# Altium integrated library WE-CMB_NiZn_rev15a.intlib: 9 symbols
Pins are listed as number, name and electrical type; pins without a type are passive.

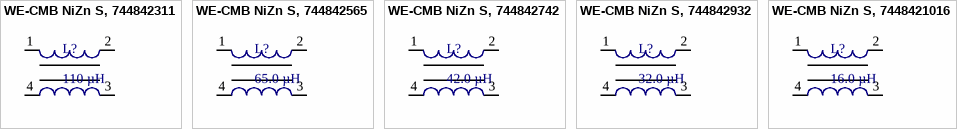
[diagram p0: symbols WE-CMB NiZn S, 744842311 to WE-CMB NiZn S, 7448421016]

## WE-CMB NiZn S, 744842311
designator L?, comment 110 µH
THT Common Mode Power Line Choke WE-CMB NiZn, L=110 µH; partNo: 744842311; Manufacturer: Würth Elektronik eiSos GmbH; Inductance: 110 µH; ComponentLink1Description: Manufacturer; ComponentLink1URL: http://www.we-online.de; Created by: Christin Zierenner; Created Date: March 2010; ComponentLink2Description: Datasheet; ComponentLink2URL: http://www.we-online.de/katalog/media/pdf/744842311.pdf
footprint WE-CMB HC S (THT Inductor, 4-Leads, Body 18,5x14,5mm)
pins: 1, 2, 3, 4

## WE-CMB NiZn S, 744842565
designator L?, comment 65.0 µH
THT Common Mode Power Line Choke WE-CMB NiZn, L=65.0 µH; partNo: 744842565; Manufacturer: Würth Elektronik eiSos GmbH; Inductance: 65.0 µH; ComponentLink1Description: Manufacturer; ComponentLink1URL: http://www.we-online.de; Created by: Christin Zierenner; Created Date: March 2010; ComponentLink2Description: Datasheet; ComponentLink2URL: http://www.we-online.de/katalog/media/pdf/744842565.pdf
footprint WE-CMB HC S (THT Inductor, 4-Leads, Body 18,5x14,5mm)
pins: 1, 2, 3, 4

## WE-CMB NiZn S, 744842742
designator L?, comment 42.0 µH
THT Common Mode Power Line Choke WE-CMB NiZn, L=42.0 µH; partNo: 744842742; Manufacturer: Würth Elektronik eiSos GmbH; Inductance: 42.0 µH; ComponentLink1Description: Manufacturer; ComponentLink1URL: http://www.we-online.de; Created by: Christin Zierenner; Created Date: March 2010; ComponentLink2Description: Datasheet; ComponentLink2URL: http://www.we-online.de/katalog/media/pdf/744842742.pdf
footprint WE-CMB HC S (THT Inductor, 4-Leads, Body 18,5x14,5mm)
pins: 1, 2, 3, 4

## WE-CMB NiZn S, 744842932
designator L?, comment 32.0 µH
THT Common Mode Power Line Choke WE-CMB NiZn, L=32.0 µH; partNo: 744842932; Manufacturer: Würth Elektronik eiSos GmbH; Inductance: 32.0 µH; ComponentLink1Description: Manufacturer; ComponentLink1URL: http://www.we-online.de; Created by: Christin Zierenner; Created Date: March 2010; ComponentLink2Description: Datasheet; ComponentLink2URL: http://www.we-online.de/katalog/media/pdf/744842932.pdf
footprint WE-CMB HC S (THT Inductor, 4-Leads, Body 18,5x14,5mm)
pins: 1, 2, 3, 4

## WE-CMB NiZn S, 7448421016
designator L?, comment 16.0 µH
THT Common Mode Power Line Choke WE-CMB NiZn, L=16.0 µH; partNo: 7448421016; Manufacturer: Würth Elektronik eiSos GmbH; Inductance: 16.0 µH; ComponentLink1Description: Manufacturer; ComponentLink1URL: http://www.we-online.de; Created by: Christin Zierenner; Created Date: March 2010; ComponentLink2Description: Datasheet; ComponentLink2URL: http://www.we-online.de/katalog/media/pdf/7448421016.pdf
footprint WE-CMB HC S (THT Inductor, 4-Leads, Body 18,5x14,5mm)
pins: 1, 2, 3, 4


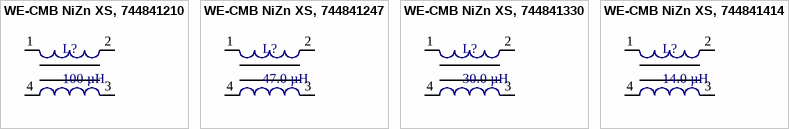
[diagram p1: symbols WE-CMB NiZn XS, 744841210 to WE-CMB NiZn XS, 744841414]

## WE-CMB NiZn XS, 744841210
designator L?, comment 100 µH
THT Common Mode Power Line Choke WE-CMB NiZn, L=100 µH; partNo: 744841210; Manufacturer: Würth Elektronik eiSos GmbH; Inductance: 100 µH; ComponentLink1Description: Manufacturer; ComponentLink1URL: http://www.we-online.de; Created by: Christin Zierenner; Created Date: March 2010; ComponentLink2Description: Datasheet; ComponentLink2URL: http://www.we-online.de/katalog/media/pdf/744841210.pdf
footprint WE-CMB HC XS (THT Inductor, 4-Leads, Body 16,0x7,5mm)
pins: 1, 2, 3, 4

## WE-CMB NiZn XS, 744841247
designator L?, comment 47.0 µH
THT Common Mode Power Line Choke WE-CMB NiZn, L=47.0 µH; partNo: 744841247; Manufacturer: Würth Elektronik eiSos GmbH; Inductance: 47.0 µH; ComponentLink1Description: Manufacturer; ComponentLink1URL: http://www.we-online.de; Created by: Christin Zierenner; Created Date: March 2010; ComponentLink2Description: Datasheet; ComponentLink2URL: http://www.we-online.de/katalog/media/pdf/744841247.pdf
footprint WE-CMB HC XS (THT Inductor, 4-Leads, Body 16,0x7,5mm)
pins: 1, 2, 3, 4

## WE-CMB NiZn XS, 744841330
designator L?, comment 30.0 µH
THT Common Mode Power Line Choke WE-CMB NiZn, L=30.0 µH; partNo: 744841330; Manufacturer: Würth Elektronik eiSos GmbH; Inductance: 30.0 µH; ComponentLink1Description: Manufacturer; ComponentLink1URL: http://www.we-online.de; Created by: Christin Zierenner; Created Date: March 2010; ComponentLink2Description: Datasheet; ComponentLink2URL: http://www.we-online.de/katalog/media/pdf/744841330.pdf
footprint WE-CMB HC XS (THT Inductor, 4-Leads, Body 16,0x7,5mm)
pins: 1, 2, 3, 4

## WE-CMB NiZn XS, 744841414
designator L?, comment 14.0 µH
THT Common Mode Power Line Choke WE-CMB NiZn, L=14.0 µH; partNo: 744841414; Manufacturer: Würth Elektronik eiSos GmbH; Inductance: 14.0 µH; ComponentLink1Description: Manufacturer; ComponentLink1URL: http://www.we-online.de; Created by: Christin Zierenner; Created Date: March 2010; ComponentLink2Description: Datasheet; ComponentLink2URL: http://www.we-online.de/katalog/media/pdf/744841414.pdf
footprint WE-CMB HC XS (THT Inductor, 4-Leads, Body 16,0x7,5mm)
pins: 1, 2, 3, 4